# Altium footprint library WPME-CDIP.PcbLib: 1 footprints
Each footprint in its own frame and in the unit in brackets; x right, y up, seen from the top. Pads: shape width x height; smd on the part's side, far side on the other; paste and mask are expansions set on the pad; w line width, h text height; cw(c..) or ccw(c..) is an arc to the next point about the centre after c.
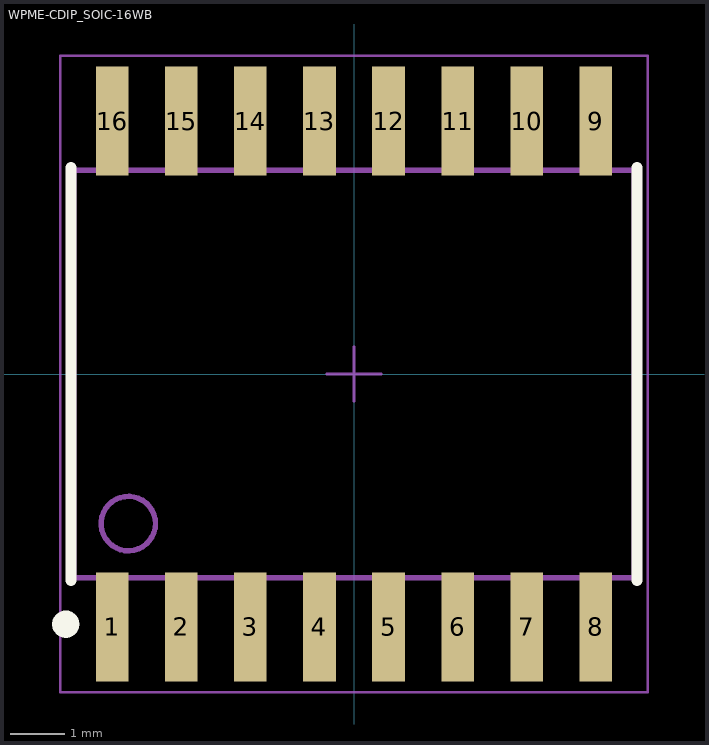
[diagram p0: the footprint, top view; thin cyan lines are the x and y axes]

## WPME-CDIP_SOIC-16WB [mm] "Digital Isolator, SMT, SOIC16-WB"
height 2.65
pads (16):
  rect 0.6x2 smd: 1(-4.445,-4.65) 2(-3.175,-4.65) 3(-1.905,-4.65) 4(-0.635,-4.65) 5(0.635,-4.65) 6(1.905,-4.65) 7(3.175,-4.65) 8(4.445,-4.65) 9(4.445,4.65) 10(3.175,4.65) 11(1.905,4.65) 12(0.635,4.65) 13(-0.635,4.65) 14(-1.905,4.65) 15(-3.175,4.65) 16(-4.445,4.65)
Top Overlay:
  circle w0.25: c-5.3,-4.6 r0.125
  lines w0.2: -5.2,-3.8 -5.2,3.8 ; 5.2,-3.8 5.2,3.8
Top Designator:
  text ".Designator" at -7.498,-0.5 h1.5
Top Component Outline:
  circle w0.1: c-4.15,-2.75 r0.5
  lines w0.1: -4.64,-3.75 -4.64,-5.15 -4.25,-5.15 -4.25,-3.75 ; -4.64,3.75 -4.64,5.15 -4.25,5.15 -4.25,3.75 ; -3.37,-3.75 -3.37,-5.15 -2.98,-5.15 -2.98,-3.75 ; -3.37,3.75 -3.37,5.15 -2.98,5.15 -2.98,3.75 ; -2.1,-3.75 -2.1,-5.15 -1.71,-5.15 -1.71,-3.75 ; -2.1,3.75 -2.1,5.15 -1.71,5.15 -1.71,3.75 ; -0.83,-3.75 -0.83,-5.15 -0.44,-5.15 -0.44,-3.75 ; -0.83,3.75 -0.83,5.15 -0.44,5.15 -0.44,3.75 ; 0.44,-3.75 0.44,-5.15 0.83,-5.15 0.83,-3.75 ; 0.44,3.75 0.44,5.15 0.83,5.15 0.83,3.75 ; 1.71,-3.75 1.71,-5.15 2.1,-5.15 2.1,-3.75 ; 1.71,3.75 1.71,5.15 2.1,5.15 2.1,3.75 ; 2.98,-3.75 2.98,-5.15 3.37,-5.15 3.37,-3.75 ; 2.98,3.75 2.98,5.15 3.37,5.15 3.37,3.75 ; 4.25,-3.75 4.25,-5.15 4.64,-5.15 4.64,-3.75 ; 4.25,3.75 4.25,5.15 4.64,5.15 4.64,3.75 ; -5.15,-3.75 5.15,-3.75 5.15,3.75 -5.15,3.75 -5.15,-3.75
Top Courtyard:
  lines w0.05: -5.4,-5.85 5.4,-5.85 5.4,5.85 -5.4,5.85 -5.4,-5.85
Top Component Center:
  lines w0.05: -0.5,0 0.5,0 ; 0,-0.5 0,0.5
3D body "18024x15401x.stp": height 2.5, standoff 0, extent -5.15,-5.15 5.15,5.15